# Altium schematic symbol library Acconeer.SchLib: 3 symbols
Pins are listed as number, name and electrical type; pins without a type are passive.

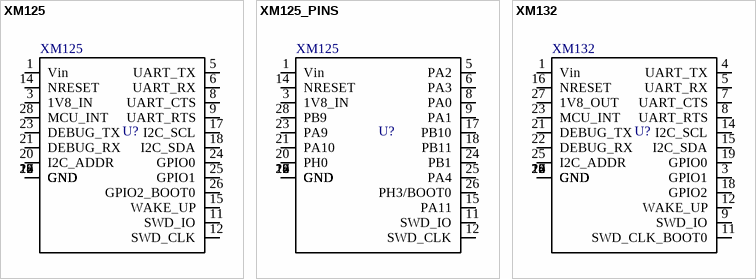
[diagram p0: symbols XM125 to XM132]

## XM125
designator U?, comment Part Number: XM125  (hidden comment: Radar module with MCU)
Manufacturer: Acconeer; Price 1: 11.74; Price 100: 11.74; Price 1000: 11.74
footprint XM125
pins: 1 Vin, 2 GND, 3 1V8_IN, 4 GND, 5 UART_TX, 6 UART_RX, 7 GND, 8 UART_CTS, 9 UART_RTS, 10 GND, 11 SWD_IO, 12 SWD_CLK, 13 GND, 14 NRESET, 15 WAKE_UP, 16 GND, 17 I2C_SCL, 18 I2C_SDA, 19 GND, 20 I2C_ADDR, 21 DEBUG_RX, 22 GND, 23 DEBUG_TX, 24 GPIO0, 25 GPIO1, 26 GPIO2_BOOT0, 27 GND, 28 MCU_INT

## XM125_PINS
designator U?, comment Part Number: XM125  (hidden comment: Radar module with MCU)
Manufacturer: Acconeer; Price 1: 11.74; Price 100: 11.74; Price 1000: 11.74
footprint XM125
pins: 1 Vin, 2 GND, 3 1V8_IN, 4 GND, 5 PA2, 6 PA3, 7 GND, 8 PA0, 9 PA1, 10 GND, 11 SWD_IO, 12 SWD_CLK, 13 GND, 14 NRESET, 15 PA11, 16 GND, 17 PB10, 18 PB11, 19 GND, 20 PH0, 21 PA10, 22 GND, 23 PA9, 24 PB1, 25 PA4, 26 PH3/BOOT0, 27 GND, 28 PB9

## XM132
designator U?, comment Part Number: XM132  (hidden comment: Radar module with MCU)
Manufacturer: Acconeer; Price 1: 20; Price 100: 12.6; Price 1000: 11.7
footprint XM132 (Radar module with MCU)
pins: 1 Vin, 2 GND, 3 GPIO1, 4 UART_TX, 5 UART_RX, 6 GND, 7 UART_CTS, 8 UART_RTS, 9 SWD_IO, 10 GND, 11 SWD_CLK_BOOT0, 12 WAKE_UP, 13 GND, 14 I2C_SCL, 15 I2C_SDA, 16 NRESET, 17 GND, 18 GPIO2, 19 GPIO0, 20 GND, 21 DEBUG_TX, 22 DEBUG_RX, 23 MCU_INT, 24 GND, 25 I2C_ADDR, 26 GND, 27 1V8_OUT, 28 GND